# Altium footprint library BRL2012T2R2M-2.PcbLib: 1 footprints
Each footprint in its own frame and in the unit in brackets; x right, y up, seen from the top. Pads: shape width x height; smd on the part's side, far side on the other; paste and mask are expansions set on the pad; w line width, h text height; cw(c..) or ccw(c..) is an arc to the next point about the centre after c.
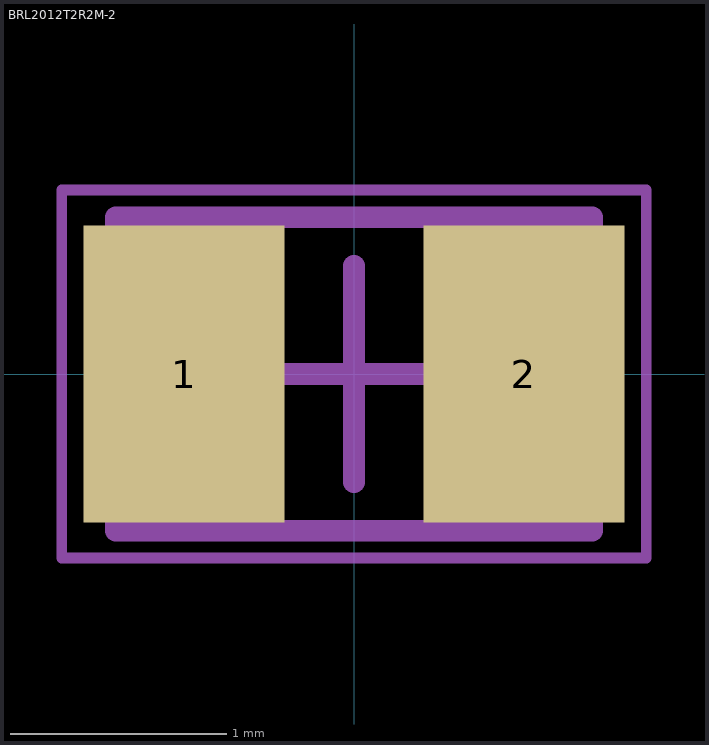
[diagram p0: the footprint, top view; thin cyan lines are the x and y axes]

## BRL2012T2R2M-2 [mm] "2.2µH Unshielded Wirewound Inductor 550mA 390 mOhm Max 0805 (2012 Metric)"
height 1
pads (2):
  rect 0.93x1.37 smd: 1(-0.785,0) 2(0.785,0)
Mechanical 13:
  lines w0.1: -1.1,-0.725 1.1,-0.725 1.1,0.725 -1.1,0.725 -1.1,-0.725
Mechanical 15:
  lines w0.05: -1.35,-0.85 1.35,-0.85 1.35,0.85 -1.35,0.85 -1.35,-0.85
  lines w0.1: -0.5,0 0.5,0 ; 0,-0.5 0,0.5
3D body "BRL2012T2R2M-2.step": height 1, standoff 0, extent -1.1,-0.725 1.1,0.725